# Altium footprint library body_QFP.PcbLib: 1 footprints
Each footprint in its own frame and in the unit in brackets; x right, y up, seen from the top. Pads: shape width x height; smd on the part's side, far side on the other; paste and mask are expansions set on the pad; w line width, h text height; cw(c..) or ccw(c..) is an arc to the next point about the centre after c.
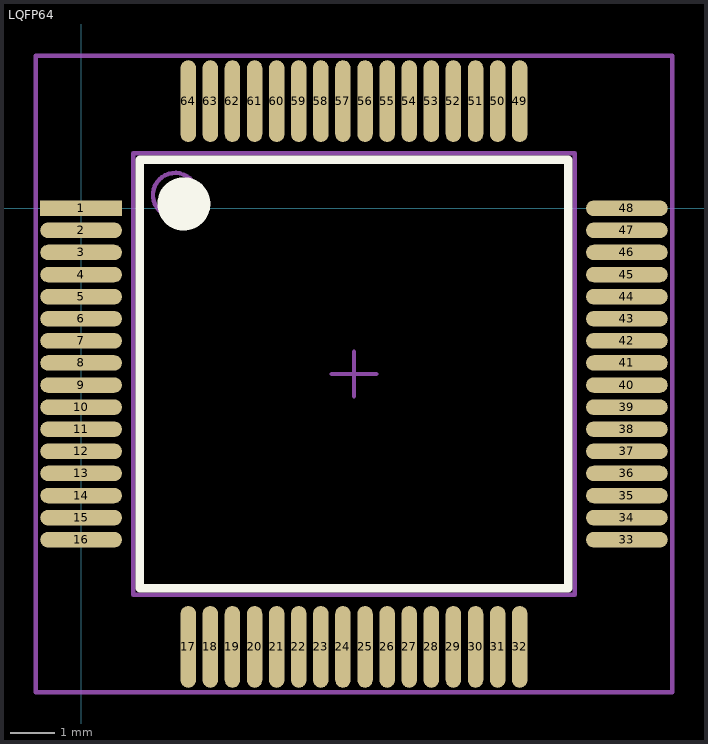
[diagram p0: the footprint, top view; thin cyan lines are the x and y axes]

## LQFP64 [mm] "64 10 x 10mm 0.5mm"
height 1.6
pads (64):
  rect 1.85x0.35 smd: 1(0,0)
  oval 1.85x0.35 smd: 2(0,-0.5) 3(0,-1) 4(0,-1.5) 5(0,-2) 6(0,-2.5) 7(0,-3) 8(0,-3.5) 9(0,-4) 10(0,-4.5) 11(0,-5) 12(0,-5.5) 13(0,-6) 14(0,-6.5) 15(0,-7) 16(0,-7.5) 33(12.35,-7.5) 34(12.35,-7) 35(12.35,-6.5) 36(12.35,-6) 37(12.35,-5.5) 38(12.35,-5) 39(12.35,-4.5) 40(12.35,-4) 41(12.35,-3.5) 42(12.35,-3) 43(12.35,-2.5) 44(12.35,-2) 45(12.35,-1.5) 46(12.35,-1) 47(12.35,-0.5) 48(12.35,0)
  oval 0.35x1.85 smd: 17(2.425,-9.925) 18(2.925,-9.925) 19(3.425,-9.925) 20(3.925,-9.925) 21(4.425,-9.925) 22(4.925,-9.925) 23(5.425,-9.925) 24(5.925,-9.925) 25(6.425,-9.925) 26(6.925,-9.925) 27(7.425,-9.925) 28(7.925,-9.925) 29(8.425,-9.925) 30(8.925,-9.925) 31(9.425,-9.925) 32(9.925,-9.925) 49(9.925,2.425) 50(9.425,2.425) 51(8.925,2.425) 52(8.425,2.425) 53(7.925,2.425) 54(7.425,2.425) 55(6.925,2.425) 56(6.425,2.425) 57(5.925,2.425) 58(5.425,2.425) 59(4.925,2.425) 60(4.425,2.425) 61(3.925,2.425) 62(3.425,2.425) 63(2.925,2.425) 64(2.425,2.425)
Top Overlay:
  circle w0.6: c2.325,0.1 r0.3
  lines w0.2: 1.325,-8.6 11.025,-8.6 11.025,1.1 1.325,1.1 1.325,-8.6
Mechanical 13:
  circle w0.1: c2.125,0.3 r0.5
  lines w0.1: 1.175,-8.75 11.175,-8.75 11.175,1.25 1.175,1.25 1.175,-8.75
Mechanical 15:
  lines w0.1: 5.675,-3.75 6.675,-3.75 ; 6.175,-4.25 6.175,-3.25 ; -1.025,-10.95 13.375,-10.95 13.375,3.45 -1.025,3.45 -1.025,-10.95
3D body "LQFP_64.STEP": height 1.6, standoff 0, extent 0.175,-9.75 12.175,2.25